# Altium schematic symbol library 91.SchLib: 1 symbol
Pins are listed as number, name and electrical type; pins without a type are passive.

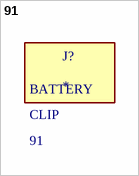
[diagram p0: symbol 91]

## 91
designator J?
Component Clip | Keystone Electronics 91; MP: 91; SnapEDA_Link: https://www.snapeda.com/parts/91/Keystone/view-part/?ref=snap; Package: None; Value: *; MF: Keystone Electronics; Check_prices: https://www.snapeda.com/parts/91/Keystone/view-part/?ref=eda
footprint KEYSTONE_91
text: BATTERY; CLIP